# Altium schematic symbol library SCH - MEMORY - MICROCHIP 24CS32 8-Pin Leaded.SchLib: 1 symbol
Pins are listed as number, name and electrical type; pins without a type are passive.

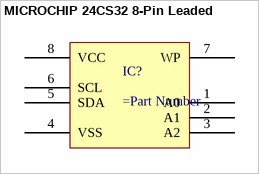
[diagram p0: symbol MICROCHIP 24CS32 8-Pin Leaded]

## MICROCHIP 24CS32 8-Pin Leaded
designator IC?
pins: 1 A0, 2 A1, 3 A2, 4 VSS, 5 SDA, 6 SCL, 7 WP, 8 VCC